# Altium footprint library 6-PLCC_LED.PcbLib: 1 footprints
Each footprint in its own frame and in the unit in brackets; x right, y up, seen from the top. Pads: shape width x height; smd on the part's side, far side on the other; paste and mask are expansions set on the pad; w line width, h text height; cw(c..) or ccw(c..) is an arc to the next point about the centre after c.
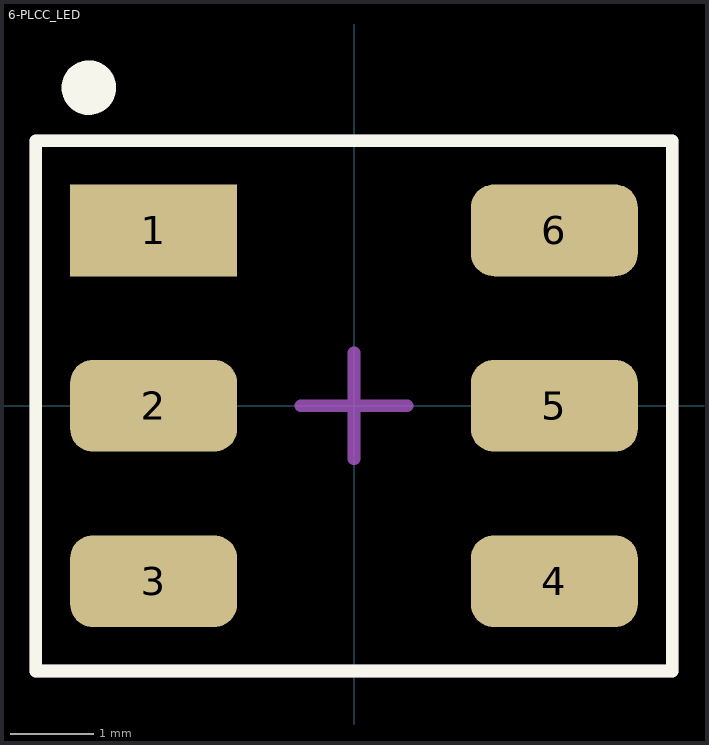
[diagram p0: the footprint, top view; thin cyan lines are the x and y axes]

## 6-PLCC_LED [mm]
pads (6):
  rect 2x1.1 smd: 1(-2.4,2.1)
  rrect50% 2x1.1 smd: 2(-2.4,0) 3(-2.4,-2.1) 4(2.4,-2.1) 5(2.4,0) 6(2.4,2.1)
Top Overlay:
  circle w0.4: c-3.175,3.81 r0.127
  lines w0.152: -3.81,-3.175 -3.81,3.175 3.81,3.175 3.81,-3.175 -3.81,-3.175
Mechanical 15:
  lines w0.152: -0.635,0 0.635,0 ; 0,-0.635 0,0.635 ; -3.81,-3.175 3.81,-3.175 3.81,3.175 -3.81,3.175 -3.81,-3.175
3D body: height 2.5, standoff 0, extent -2.85,-3 2.85,3